# Altium footprint library DA14531MOD-00F01002.PcbLib: 1 footprints
Each footprint in its own frame and in the unit in brackets; x right, y up, seen from the top. Pads: shape width x height; smd on the part's side, far side on the other; paste and mask are expansions set on the pad; w line width, h text height; cw(c..) or ccw(c..) is an arc to the next point about the centre after c.
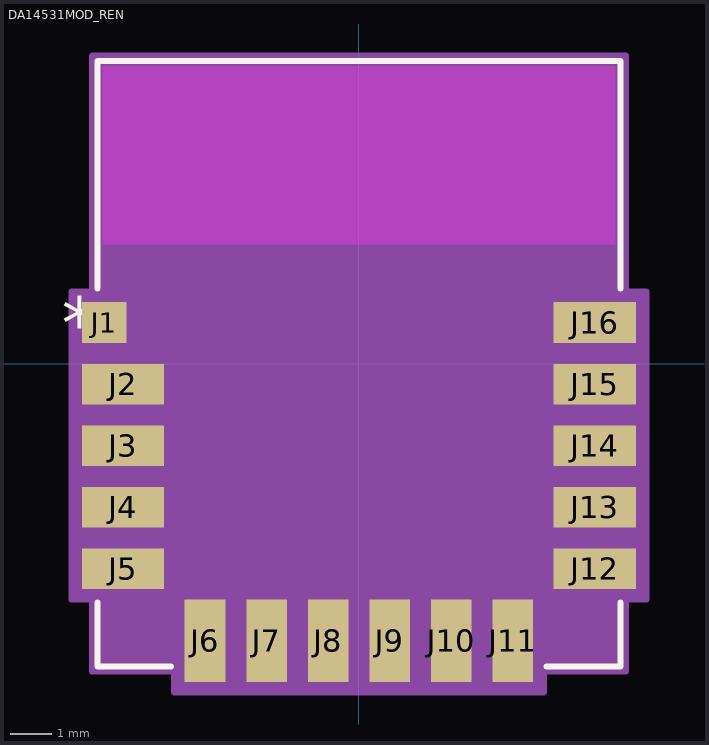
[diagram p0: the footprint, top view; thin cyan lines are the x and y axes]

## DA14531MOD_REN [mil]
pads (16):
  rect 43x39 smd paste+0 mask+0: J1(-244.4,39.5)
  rect 79x39 smd paste+0 mask+0: J2(-226.4,-19.6) J3(-226.4,-78.7) J4(-226.4,-137.8) J5(-226.4,-196.9) J12(226.4,-196.9) J13(226.4,-137.8) J14(226.4,-78.7) J15(226.4,-19.6) J16(226.4,39.5)
  rect 39x79 smd paste+0 mask+0: J6(-147.75,-265.75) J7(-88.65,-265.75) J8(-29.55,-265.75) J9(29.55,-265.75) J10(88.65,-265.75) J11(147.75,-265.75)
Top Overlay:
  lines w6: -251,-229.5 -251,-290.5 -180.35,-290.5 ; -251,72.1 -251,290.5 251,290.5 251,72.1 ; 180.35,-290.5 251,-290.5 251,-229.5
  text "*" at -285.4,14.5 h50
Keep-Out Layer:
  region: -246,285.5 -246,114.5 246,114.5 246,285.5
Mechanical 13:
  lines w1: -246,-285.5 246,-285.5 246,285.5 -246,285.5 -246,-285.5
  text "*" at -192.4,14.5 h50
Mechanical 15:
  region: -256,295.5 -256,69 -275.9,69 -275.9,-226.4 -256,-226.4 -256,-295.5 -177.25,-295.5 -177.25,-315.25 177.25,-315.25 177.25,-295.5 256,-295.5 256,-226.4 275.9,-226.4 275.9,69 256,69 256,295.5
  lines w6: -275.9,-226.4 -275.9,69 -256,69 -256,295.5 256,295.5 256,69 275.9,69 275.9,-226.4 256,-226.4 256,-295.5 177.25,-295.5 177.25,-315.25 -177.25,-315.25 -177.25,-295.5 -256,-295.5 -256,-226.4 -275.9,-226.4